# EAGLE library part SN74ABT126 (library SPI_Switch)
SN74ABT126 Line Driver
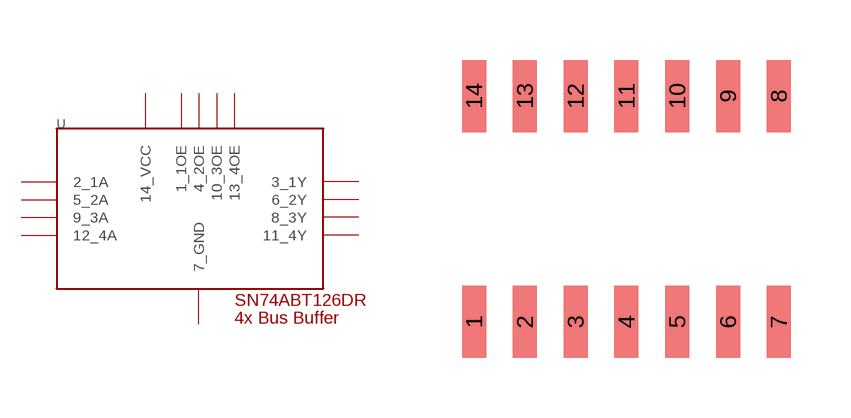
[diagram p3: symbol with the pads of SN74ABT126; footprint SN74ABT126]

Designator prefix -

## SN74ABT126  [SN74ABT126]
1  1_1OE
2  2_1A
3  3_1Y
4  4_2OE
5  5_2A
6  6_2Y
7  7_GND
8  8_3Y
9  9_3A
10  10_3OE
11  11_4Y
12  12_4A
13  13_4OE
14  14_VCC

## Footprint SN74ABT126 (pad centres in mm)
SN74ABT126 Line Driver
smd 0.6 x 1.8: 1 1.143,1.242; 2 2.413,1.242; 3 3.683,1.242; 4 4.953,1.242; 5 6.223,1.242; 6 7.493,1.242; 7 8.763,1.242; 8 8.763,6.886; 9 7.493,6.886; 10 6.223,6.886; 11 4.953,6.886; 12 3.683,6.886; 13 2.413,6.886; 14 1.143,6.886